# EAGLE library part STM32F415/417 (library ST-MCU)
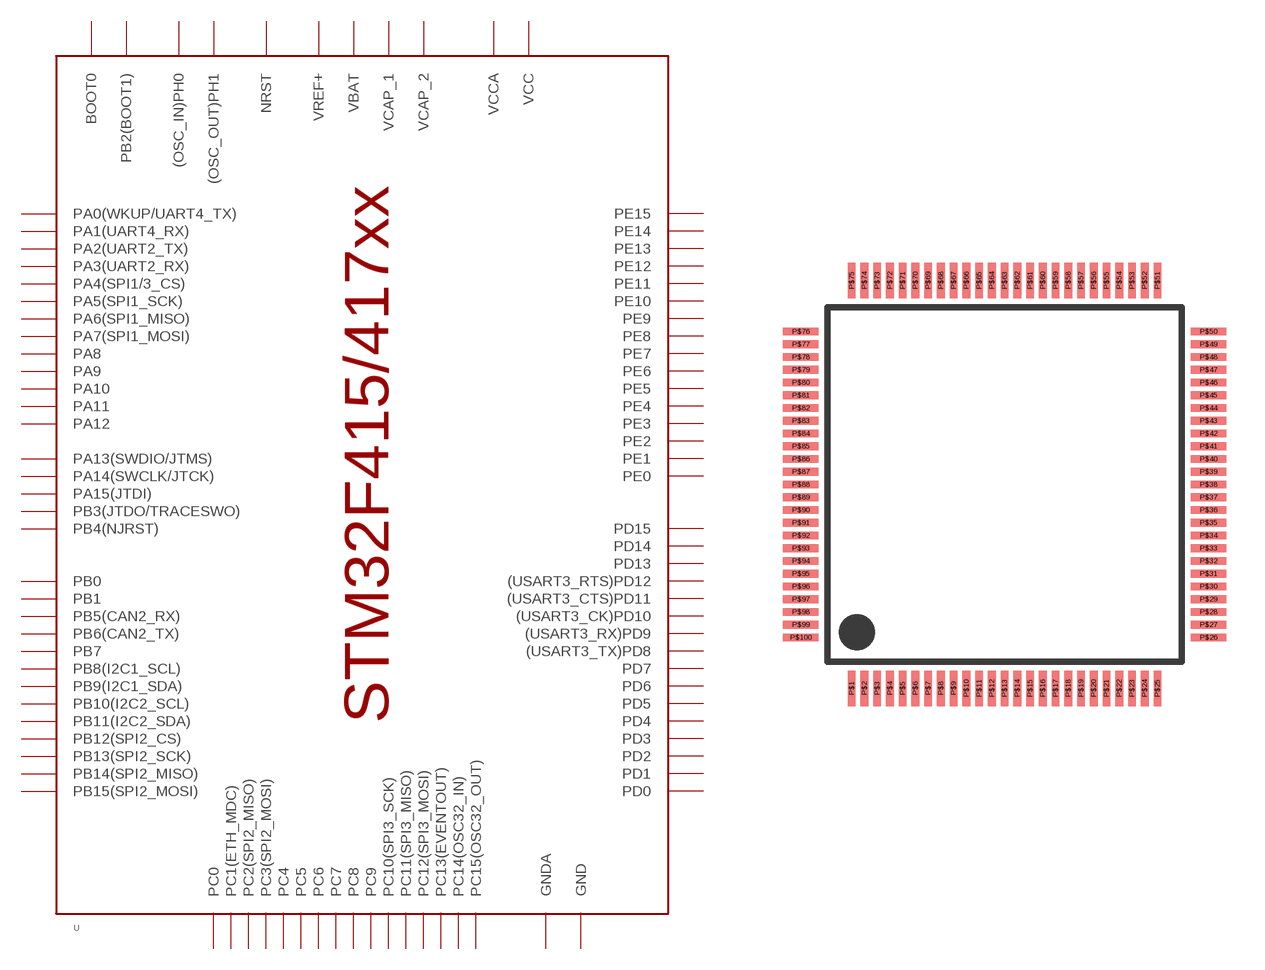
[diagram p3: symbol with the pads of LQFP100; footprint LQFP100]

Designator prefix U

## STM32F415/417  [LQFP100]
P$1  PE2
P$2  PE3
P$3  PE4
P$4  PE5
P$5  PE6
P$6  VBAT  pwr
P$7  PC13(EVENTOUT)
P$8  PC14(OSC32_IN)
P$9  PC15(OSC32_OUT)
P$10  GND  sup
P$11  VCC  pwr
P$12  (OSC_IN)PH0
P$13  (OSC_OUT)PH1
P$14  NRST
P$15  PC0
P$16  PC1(ETH_MDC)
P$17  PC2(SPI2_MISO)
P$18  PC3(SPI2_MOSI)
P$19  VCC  pwr
P$20  GNDA  sup
P$21  VREF+  pwr
P$22  VCCA  pwr
P$23  PA0(WKUP/UART4_TX)
P$24  PA1(UART4_RX)
P$25  PA2(UART2_TX)
P$26  PA3(UART2_RX)
P$27  GND  sup
P$28  VCC  pwr
P$29  PA4(SPI1/3_CS)
P$30  PA5(SPI1_SCK)
P$31  PA6(SPI1_MISO)
P$32  PA7(SPI1_MOSI)
P$33  PC4
P$34  PC5
P$35  PB0
P$36  PB1
P$37  PB2(BOOT1)
P$38  PE7
P$39  PE8
P$40  PE9
P$41  PE10
P$42  PE11
P$43  PE12
P$44  PE13
P$45  PE14
P$46  PE15
P$47  PB10(I2C2_SCL)
P$48  PB11(I2C2_SDA)
P$49  VCAP_1  pwr
P$50  VCC  pwr
P$51  PB12(SPI2_CS)
P$52  PB13(SPI2_SCK)
P$53  PB14(SPI2_MISO)
P$54  PB15(SPI2_MOSI)
P$55  (USART3_TX)PD8
P$56  (USART3_RX)PD9
P$57  (USART3_CK)PD10
P$58  (USART3_CTS)PD11
P$59  (USART3_RTS)PD12
P$60  PD13
P$61  PD14
P$62  PD15
P$63  PC6
P$64  PC7
P$65  PC8
P$66  PC9
P$67  PA8
P$68  PA9
P$69  PA10
P$70  PA11
P$71  PA12
P$72  PA13(SWDIO/JTMS)
P$73  VCAP_2  pwr
P$74  GND  sup
P$75  VCC  pwr
P$76  PA14(SWCLK/JTCK)
P$77  PA15(JTDI)
P$78  PC10(SPI3_SCK)
P$79  PC11(SPI3_MISO)
P$80  PC12(SPI3_MOSI)
P$81  PD0
P$82  PD1
P$83  PD2
P$84  PD3
P$85  PD4
P$86  PD5
P$87  PD6
P$88  PD7
P$89  PB3(JTDO/TRACESWO)
P$90  PB4(NJRST)
P$91  PB5(CAN2_RX)
P$92  PB6(CAN2_TX)
P$93  PB7
P$94  BOOT0
P$95  PB8(I2C1_SCL)
P$96  PB9(I2C1_SDA)
P$97  PE0
P$98  PE1
P$99  GND  sup
P$100  VCC  pwr

## Footprint LQFP100 (pad centres in mm)
smd 0.3 x 1.4: P$1 -6,-8; P$2 -5.5,-8; P$3 -5,-8; P$4 -4.5,-8; P$5 -4,-8; P$6 -3.5,-8; P$7 -3,-8; P$8 -2.5,-8; P$9 -2,-8; P$10 -1.5,-8; P$11 -1,-8; P$12 -0.5,-8; P$13 0,-8; P$14 0.5,-8; P$15 1,-8; P$16 1.5,-8; P$17 2,-8; P$18 2.5,-8; P$19 3,-8; P$20 3.5,-8; P$21 4,-8; P$22 4.5,-8; P$23 5,-8; P$24 5.5,-8; P$25 6,-8; P$51 6,8; P$52 5.5,8; P$53 5,8; P$54 4.5,8; P$55 4,8; P$56 3.5,8; P$57 3,8; P$58 2.5,8; P$59 2,8; P$60 1.5,8; P$61 1,8; P$62 0.5,8; P$63 0,8; P$64 -0.5,8; P$65 -1,8; P$66 -1.5,8; P$67 -2,8; P$68 -2.5,8; P$69 -3,8; P$70 -3.5,8; P$71 -4,8; P$72 -4.5,8; P$73 -5,8; P$74 -5.5,8; P$75 -6,8
smd 1.4 x 0.3: P$26 8,-6; P$27 8,-5.5; P$28 8,-5; P$29 8,-4.5; P$30 8,-4; P$31 8,-3.5; P$32 8,-3; P$33 8,-2.5; P$34 8,-2; P$35 8,-1.5; P$36 8,-1; P$37 8,-0.5; P$38 8,0; P$39 8,0.5; P$40 8,1; P$41 8,1.5; P$42 8,2; P$43 8,2.5; P$44 8,3; P$45 8,3.5; P$46 8,4; P$47 8,4.5; P$48 8,5; P$49 8,5.5; P$50 8,6; P$76 -8,6; P$77 -8,5.5; P$78 -8,5; P$79 -8,4.5; P$80 -8,4; P$81 -8,3.5; P$82 -8,3; P$83 -8,2.5; P$84 -8,2; P$85 -8,1.5; P$86 -8,1; P$87 -8,0.5; P$88 -8,0; P$89 -8,-0.5; P$90 -8,-1; P$91 -8,-1.5; P$92 -8,-2; P$93 -8,-2.5; P$94 -8,-3; P$95 -8,-3.5; P$96 -8,-4; P$97 -8,-4.5; P$98 -8,-5; P$99 -8,-5.5; P$100 -8,-6